# EAGLE library part LTC4060 (library wa7iut)
LTC4060 Standalone Linear NiMH/NiCd Fast Battery Charger
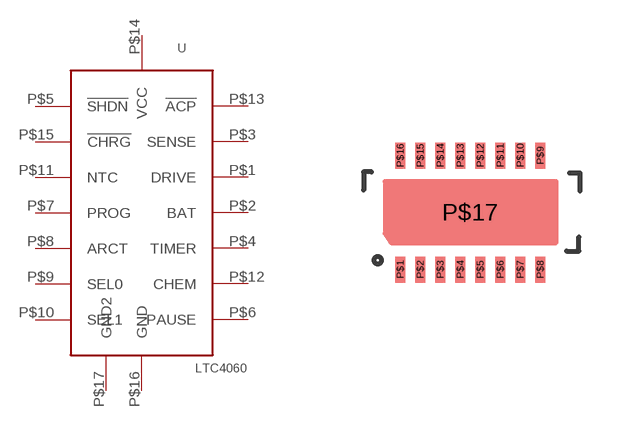
[diagram p1: symbol with the pads of DFN_16; footprint DFN_16]

Designator prefix -

## LTC4060  [DFN_16]
P$1  DRIVE
P$2  BAT
P$3  SENSE
P$4  TIMER
P$5  !SHDN
P$6  PAUSE
P$7  PROG
P$8  ARCT
P$9  SEL0
P$10  SEL1
P$11  NTC
P$12  CHEM
P$13  !ACP
P$14  VCC
P$15  !CHRG
P$16  GND
P$17  GND2

## Footprint DFN_16 (pad centres in mm)
DHC Package 16 Lead Plastic DFN (5mmx3mm)
smd 0.25 x 0.65: P$1 -1.75,-1.425; P$2 -1.25,-1.425; P$3 -0.75,-1.425; P$4 -0.25,-1.425; P$5 0.25,-1.425; P$6 0.75,-1.425; P$7 1.25,-1.425; P$8 1.75,-1.425; P$9 1.75,1.425; P$10 1.25,1.425; P$11 0.75,1.425; P$12 0.25,1.425; P$13 -0.25,1.425; P$14 -0.75,1.425; P$15 -1.25,1.425; P$16 -1.75,1.425
smd 1.27 x 0.635: P$17 0,0